# Altium footprint library QFN_Sq_50P_Side_N.PcbLib: 116 footprints (part 5 of 8)
Each footprint in its own frame and in the unit in brackets; x right, y up, seen from the top. Pads: shape width x height; smd on the part's side, far side on the other; paste and mask are expansions set on the pad; w line width, h text height; cw(c..) or ccw(c..) is an arc to the next point about the centre after c.
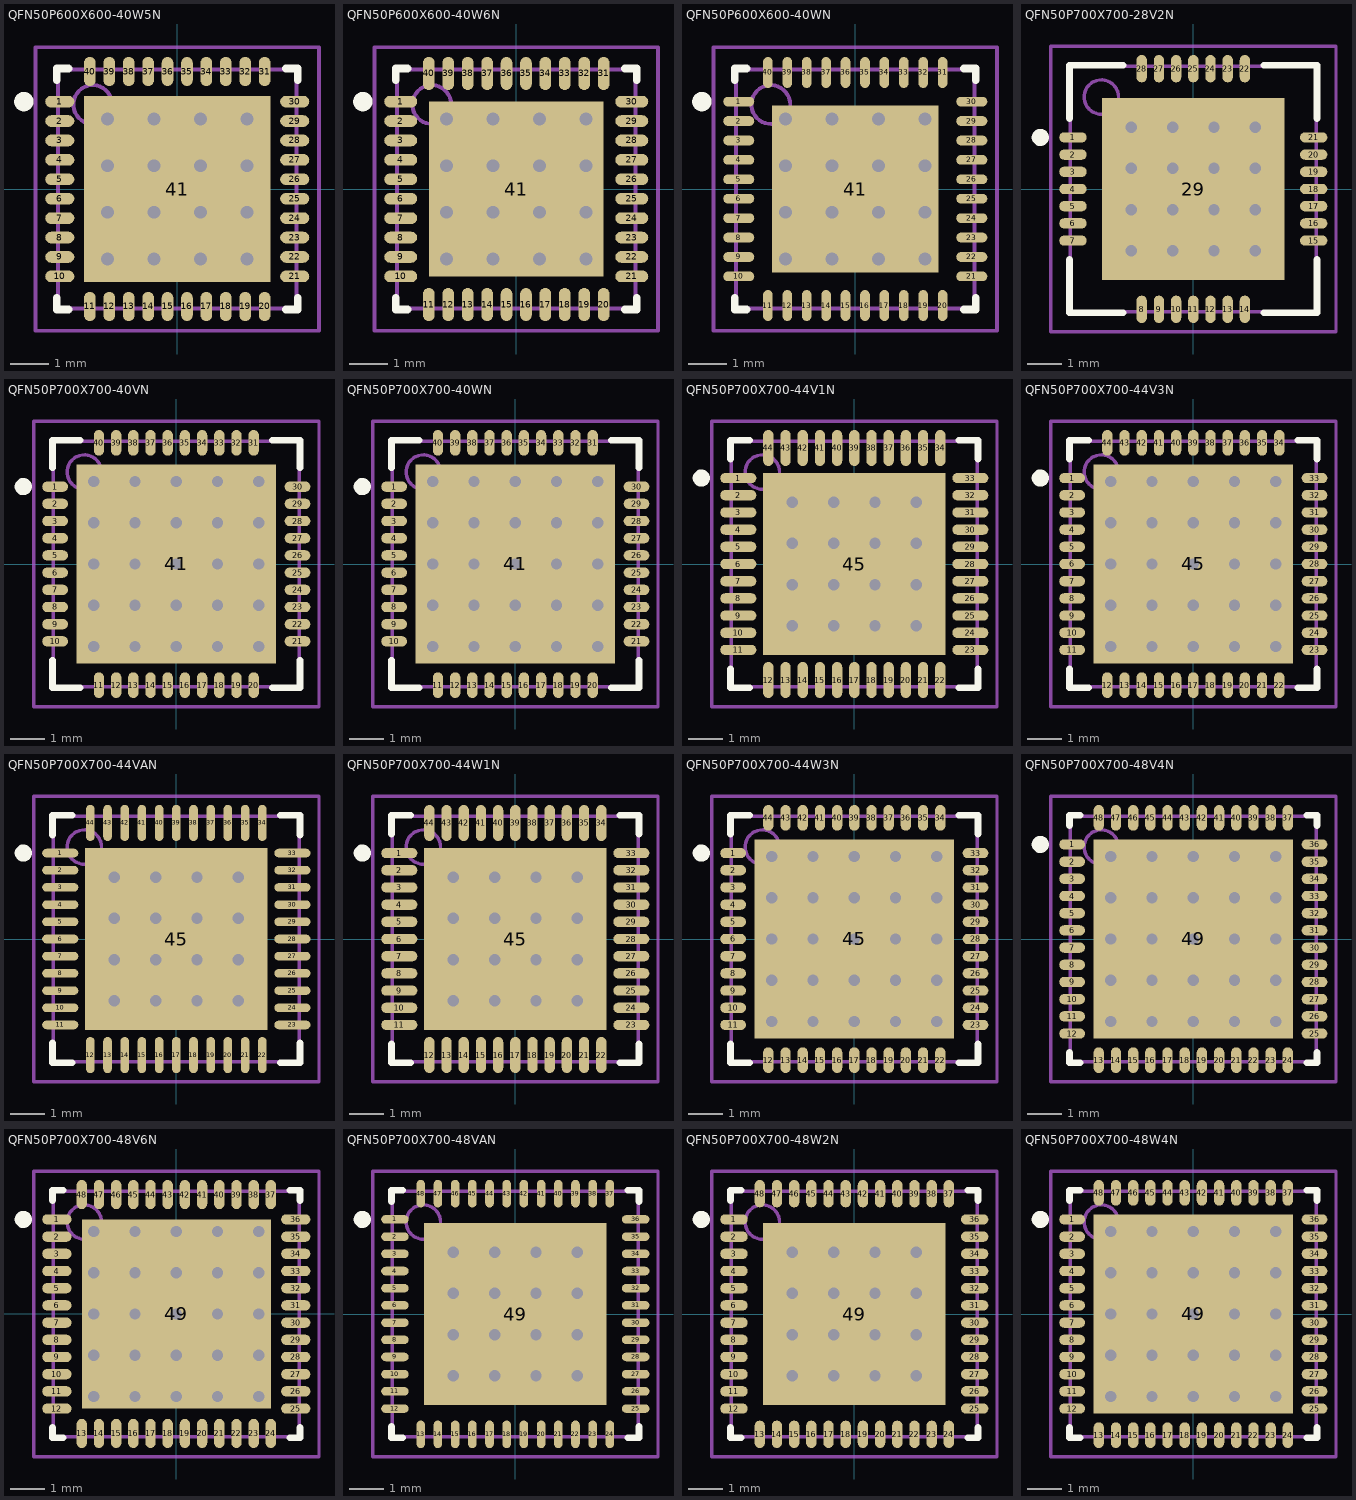
[diagram p4: the footprints below, top view; thin cyan lines are the x and y axes]

## QFN50P600X600-40W5N [mm] "QFN, 40-Leads, Body 6x6mm, Pitch 0.5mm, IPC Medium Density"
height 0.8
pads (41):
  oval 0.75x0.3 smd: 1(-3.025,2.25) 2(-3.025,1.75) 3(-3.025,1.25) 4(-3.025,0.75) 5(-3.025,0.25) 6(-3.025,-0.25) 7(-3.025,-0.75) 8(-3.025,-1.25) 9(-3.025,-1.75) 10(-3.025,-2.25) 21(3.025,-2.25) 22(3.025,-1.75) 23(3.025,-1.25) 24(3.025,-0.75) 25(3.025,-0.25) 26(3.025,0.25) 27(3.025,0.75) 28(3.025,1.25) 29(3.025,1.75) 30(3.025,2.25)
  oval 0.3x0.75 smd: 11(-2.25,-3.025) 12(-1.75,-3.025) 13(-1.25,-3.025) 14(-0.75,-3.025) 15(-0.25,-3.025) 16(0.25,-3.025) 17(0.75,-3.025) 18(1.25,-3.025) 19(1.75,-3.025) 20(2.25,-3.025) 31(2.25,3.025) 32(1.75,3.025) 33(1.25,3.025) 34(0.75,3.025) 35(0.25,3.025) 36(-0.25,3.025) 37(-0.75,3.025) 38(-1.25,3.025) 39(-1.75,3.025) 40(-2.25,3.025)
  rect 4.8x4.8 smd: 41(0,0)
via -1.8,1.8 diameter 0.66 hole 0.33
via -0.6,1.8 diameter 0.66 hole 0.33
via 0.6,1.8 diameter 0.66 hole 0.33
via 1.8,1.8 diameter 0.66 hole 0.33
via -1.8,0.6 diameter 0.66 hole 0.33
via -0.6,0.6 diameter 0.66 hole 0.33
via 0.6,0.6 diameter 0.66 hole 0.33
via 1.8,0.6 diameter 0.66 hole 0.33
via -1.8,-0.6 diameter 0.66 hole 0.33
via -0.6,-0.6 diameter 0.66 hole 0.33
via 0.6,-0.6 diameter 0.66 hole 0.33
via 1.8,-0.6 diameter 0.66 hole 0.33
via -1.8,-1.8 diameter 0.66 hole 0.33
via -0.6,-1.8 diameter 0.66 hole 0.33
via 0.6,-1.8 diameter 0.66 hole 0.33
via 1.8,-1.8 diameter 0.66 hole 0.33
Top Overlay:
  circle w0.25: c-3.95,2.25 r0.125
  lines w0.2: -3.1,-2.8 -3.1,-3.1 -2.8,-3.1 ; -3.1,2.8 -3.1,3.1 -2.8,3.1 ; 2.8,-3.1 3.1,-3.1 3.1,-2.8 ; 2.8,3.1 3.1,3.1 3.1,2.8
Mechanical 13:
  circle w0.1: c-2.175,2.175 r0.5
  lines w0.1: -3.075,-3.075 -3.075,3.075 3.075,3.075 3.075,-3.075 -3.075,-3.075
Mechanical 15:
  lines w0.1: -0.5,0 0.5,0 ; 0,-0.5 0,0.5 ; -3.65,-3.65 -3.65,3.65 3.65,3.65 3.65,-3.65 -3.65,-3.65
3D body: height 0.8, standoff 0, extent -3.075,-3.075 3.075,3.075

## QFN50P600X600-40W6N [mm] "QFN, 40-Leads, Body 6x6mm, Pitch 0.5mm, IPC Medium Density"
height 0.8
pads (41):
  oval 0.85x0.3 smd: 1(-2.975,2.25) 2(-2.975,1.75) 3(-2.975,1.25) 4(-2.975,0.75) 5(-2.975,0.25) 6(-2.975,-0.25) 7(-2.975,-0.75) 8(-2.975,-1.25) 9(-2.975,-1.75) 10(-2.975,-2.25) 21(2.975,-2.25) 22(2.975,-1.75) 23(2.975,-1.25) 24(2.975,-0.75) 25(2.975,-0.25) 26(2.975,0.25) 27(2.975,0.75) 28(2.975,1.25) 29(2.975,1.75) 30(2.975,2.25)
  oval 0.3x0.85 smd: 11(-2.25,-2.975) 12(-1.75,-2.975) 13(-1.25,-2.975) 14(-0.75,-2.975) 15(-0.25,-2.975) 16(0.25,-2.975) 17(0.75,-2.975) 18(1.25,-2.975) 19(1.75,-2.975) 20(2.25,-2.975) 31(2.25,2.975) 32(1.75,2.975) 33(1.25,2.975) 34(0.75,2.975) 35(0.25,2.975) 36(-0.25,2.975) 37(-0.75,2.975) 38(-1.25,2.975) 39(-1.75,2.975) 40(-2.25,2.975)
  rect 4.5x4.5 smd: 41(0,0)
via -1.8,1.8 diameter 0.66 hole 0.33
via -0.6,1.8 diameter 0.66 hole 0.33
via 0.6,1.8 diameter 0.66 hole 0.33
via 1.8,1.8 diameter 0.66 hole 0.33
via -1.8,0.6 diameter 0.66 hole 0.33
via -0.6,0.6 diameter 0.66 hole 0.33
via 0.6,0.6 diameter 0.66 hole 0.33
via 1.8,0.6 diameter 0.66 hole 0.33
via -1.8,-0.6 diameter 0.66 hole 0.33
via -0.6,-0.6 diameter 0.66 hole 0.33
via 0.6,-0.6 diameter 0.66 hole 0.33
via 1.8,-0.6 diameter 0.66 hole 0.33
via -1.8,-1.8 diameter 0.66 hole 0.33
via -0.6,-1.8 diameter 0.66 hole 0.33
via 0.6,-1.8 diameter 0.66 hole 0.33
via 1.8,-1.8 diameter 0.66 hole 0.33
Top Overlay:
  circle w0.25: c-3.95,2.25 r0.125
  lines w0.2: -3.1,-2.8 -3.1,-3.1 -2.8,-3.1 ; -3.1,2.8 -3.1,3.1 -2.8,3.1 ; 2.8,-3.1 3.1,-3.1 3.1,-2.8 ; 2.8,3.1 3.1,3.1 3.1,2.8
Mechanical 13:
  circle w0.1: c-2.175,2.175 r0.5
  lines w0.1: -3.075,-3.075 -3.075,3.075 3.075,3.075 3.075,-3.075 -3.075,-3.075
Mechanical 15:
  lines w0.1: -0.5,0 0.5,0 ; 0,-0.5 0,0.5 ; -3.65,-3.65 -3.65,3.65 3.65,3.65 3.65,-3.65 -3.65,-3.65
3D body: height 0.8, standoff 0, extent -3.075,-3.075 3.075,3.075

## QFN50P600X600-40WN [mm] "QFN, 40-Leads, Body 6x6mm, Pitch 0.5mm, IPC Medium Density"
height 0.8
pads (41):
  oval 0.8x0.25 smd: 1(-3,2.25) 2(-3,1.75) 3(-3,1.25) 4(-3,0.75) 5(-3,0.25) 6(-3,-0.25) 7(-3,-0.75) 8(-3,-1.25) 9(-3,-1.75) 10(-3,-2.25) 21(3,-2.25) 22(3,-1.75) 23(3,-1.25) 24(3,-0.75) 25(3,-0.25) 26(3,0.25) 27(3,0.75) 28(3,1.25) 29(3,1.75) 30(3,2.25)
  oval 0.25x0.8 smd: 11(-2.25,-3) 12(-1.75,-3) 13(-1.25,-3) 14(-0.75,-3) 15(-0.25,-3) 16(0.25,-3) 17(0.75,-3) 18(1.25,-3) 19(1.75,-3) 20(2.25,-3) 31(2.25,3) 32(1.75,3) 33(1.25,3) 34(0.75,3) 35(0.25,3) 36(-0.25,3) 37(-0.75,3) 38(-1.25,3) 39(-1.75,3) 40(-2.25,3)
  rect 4.3x4.3 smd: 41(0,0)
via 1.8,-1.8 diameter 0.66 hole 0.33
via 0.6,-1.8 diameter 0.66 hole 0.33
via -0.6,-1.8 diameter 0.66 hole 0.33
via -1.8,-1.8 diameter 0.66 hole 0.33
via 1.8,-0.6 diameter 0.66 hole 0.33
via 0.6,-0.6 diameter 0.66 hole 0.33
via -0.6,-0.6 diameter 0.66 hole 0.33
via -1.8,-0.6 diameter 0.66 hole 0.33
via 1.8,0.6 diameter 0.66 hole 0.33
via 0.6,0.6 diameter 0.66 hole 0.33
via -0.6,0.6 diameter 0.66 hole 0.33
via -1.8,0.6 diameter 0.66 hole 0.33
via 1.8,1.8 diameter 0.66 hole 0.33
via 0.6,1.8 diameter 0.66 hole 0.33
via -0.6,1.8 diameter 0.66 hole 0.33
via -1.8,1.8 diameter 0.66 hole 0.33
Top Overlay:
  circle w0.25: c-3.95,2.25 r0.125
  lines w0.2: -3.1,-2.8 -3.1,-3.1 -2.8,-3.1 ; -3.1,2.8 -3.1,3.1 -2.8,3.1 ; 2.8,-3.1 3.1,-3.1 3.1,-2.8 ; 2.8,3.1 3.1,3.1 3.1,2.8
Mechanical 13:
  circle w0.1: c-2.175,2.175 r0.5
  lines w0.1: -3.075,-3.075 3.075,-3.075 3.075,3.075 -3.075,3.075 -3.075,-3.075
Mechanical 15:
  lines w0.1: -0.5,0 0.5,0 ; 0,-0.5 0,0.5 ; -3.65,-3.65 3.65,-3.65 3.65,3.65 -3.65,3.65 -3.65,-3.65
3D body: height 0.8, standoff 0, extent -3.075,-3.075 3.075,3.075

## QFN50P700X700-28V2N [mm] "QFN, 28-Leads, Body 7x7mm, Pitch 0.5mm, IPC Medium Density"
height 1
pads (29):
  oval 0.8x0.3 smd: 1(-3.5,1.5) 2(-3.5,1) 3(-3.5,0.5) 4(-3.5,0) 5(-3.5,-0.5) 6(-3.5,-1) 7(-3.5,-1.5) 15(3.5,-1.5) 16(3.5,-1) 17(3.5,-0.5) 18(3.5,0) 19(3.5,0.5) 20(3.5,1) 21(3.5,1.5)
  oval 0.3x0.8 smd: 8(-1.5,-3.5) 9(-1,-3.5) 10(-0.5,-3.5) 11(0,-3.5) 12(0.5,-3.5) 13(1,-3.5) 14(1.5,-3.5) 22(1.5,3.5) 23(1,3.5) 24(0.5,3.5) 25(0,3.5) 26(-0.5,3.5) 27(-1,3.5) 28(-1.5,3.5)
  rect 5.3x5.3 smd: 29(0,0)
via -1.8,1.8 diameter 0.66 hole 0.33
via -0.6,1.8 diameter 0.66 hole 0.33
via 0.6,1.8 diameter 0.66 hole 0.33
via 1.8,1.8 diameter 0.66 hole 0.33
via -1.8,0.6 diameter 0.66 hole 0.33
via -0.6,0.6 diameter 0.66 hole 0.33
via 0.6,0.6 diameter 0.66 hole 0.33
via 1.8,0.6 diameter 0.66 hole 0.33
via -1.8,-0.6 diameter 0.66 hole 0.33
via -0.6,-0.6 diameter 0.66 hole 0.33
via 0.6,-0.6 diameter 0.66 hole 0.33
via 1.8,-0.6 diameter 0.66 hole 0.33
via -1.8,-1.8 diameter 0.66 hole 0.33
via -0.6,-1.8 diameter 0.66 hole 0.33
via 0.6,-1.8 diameter 0.66 hole 0.33
via 1.8,-1.8 diameter 0.66 hole 0.33
Top Overlay:
  circle w0.25: c-4.45,1.5 r0.125
  lines w0.2: -3.6,-2.05 -3.6,-3.6 -2.05,-3.6 ; -3.6,2.05 -3.6,3.6 -2.05,3.6 ; 2.05,-3.6 3.6,-3.6 3.6,-2.05 ; 2.05,3.6 3.6,3.6 3.6,2.05
Mechanical 13:
  circle w0.1: c-2.675,2.675 r0.5
  lines w0.1: -3.575,-3.575 -3.575,3.575 3.575,3.575 3.575,-3.575 -3.575,-3.575
Mechanical 15:
  lines w0.1: -0.5,0 0.5,0 ; 0,-0.5 0,0.5 ; -4.15,-4.15 -4.15,4.15 4.15,4.15 4.15,-4.15 -4.15,-4.15
3D body: height 1, standoff 0, extent -3.575,-3.575 3.575,3.575

## QFN50P700X700-40VN [mm] "QFN, 40-Leads, Body 7x7mm, Pitch 0.5mm, IPC Medium Density"
height 1
pads (41):
  oval 0.75x0.3 smd: 1(-3.525,2.25) 2(-3.525,1.75) 3(-3.525,1.25) 4(-3.525,0.75) 5(-3.525,0.25) 6(-3.525,-0.25) 7(-3.525,-0.75) 8(-3.525,-1.25) 9(-3.525,-1.75) 10(-3.525,-2.25) 21(3.525,-2.25) 22(3.525,-1.75) 23(3.525,-1.25) 24(3.525,-0.75) 25(3.525,-0.25) 26(3.525,0.25) 27(3.525,0.75) 28(3.525,1.25) 29(3.525,1.75) 30(3.525,2.25)
  oval 0.3x0.75 smd: 11(-2.25,-3.525) 12(-1.75,-3.525) 13(-1.25,-3.525) 14(-0.75,-3.525) 15(-0.25,-3.525) 16(0.25,-3.525) 17(0.75,-3.525) 18(1.25,-3.525) 19(1.75,-3.525) 20(2.25,-3.525) 31(2.25,3.525) 32(1.75,3.525) 33(1.25,3.525) 34(0.75,3.525) 35(0.25,3.525) 36(-0.25,3.525) 37(-0.75,3.525) 38(-1.25,3.525) 39(-1.75,3.525) 40(-2.25,3.525)
  rect 5.8x5.8 smd: 41(0,0)
via -2.4,2.4 diameter 0.66 hole 0.33
via -1.2,2.4 diameter 0.66 hole 0.33
via 0,2.4 diameter 0.66 hole 0.33
via 1.2,2.4 diameter 0.66 hole 0.33
via 2.4,2.4 diameter 0.66 hole 0.33
via -2.4,1.2 diameter 0.66 hole 0.33
via -1.2,1.2 diameter 0.66 hole 0.33
via 0,1.2 diameter 0.66 hole 0.33
via 1.2,1.2 diameter 0.66 hole 0.33
via 2.4,1.2 diameter 0.66 hole 0.33
via -2.4,0 diameter 0.66 hole 0.33
via -1.2,0 diameter 0.66 hole 0.33
via 0,0 diameter 0.66 hole 0.33
via 1.2,0 diameter 0.66 hole 0.33
via 2.4,0 diameter 0.66 hole 0.33
via -2.4,-1.2 diameter 0.66 hole 0.33
via -1.2,-1.2 diameter 0.66 hole 0.33
via 0,-1.2 diameter 0.66 hole 0.33
via 1.2,-1.2 diameter 0.66 hole 0.33
via 2.4,-1.2 diameter 0.66 hole 0.33
via -2.4,-2.4 diameter 0.66 hole 0.33
via -1.2,-2.4 diameter 0.66 hole 0.33
via 0,-2.4 diameter 0.66 hole 0.33
via 1.2,-2.4 diameter 0.66 hole 0.33
via 2.4,-2.4 diameter 0.66 hole 0.33
Top Overlay:
  circle w0.25: c-4.45,2.25 r0.125
  lines w0.2: -3.6,-2.8 -3.6,-3.6 -2.8,-3.6 ; -3.6,2.8 -3.6,3.6 -2.8,3.6 ; 2.8,-3.6 3.6,-3.6 3.6,-2.8 ; 2.8,3.6 3.6,3.6 3.6,2.8
Mechanical 13:
  circle w0.1: c-2.675,2.675 r0.5
  lines w0.1: -3.575,-3.575 -3.575,3.575 3.575,3.575 3.575,-3.575 -3.575,-3.575
Mechanical 15:
  lines w0.1: -0.5,0 0.5,0 ; 0,-0.5 0,0.5 ; -4.15,-4.15 -4.15,4.15 4.15,4.15 4.15,-4.15 -4.15,-4.15
3D body: height 1, standoff 0, extent -3.575,-3.575 3.575,3.575

## QFN50P700X700-40WN [mm] "QFN, 40-Leads, Body 7x7mm, Pitch 0.5mm, IPC Medium Density"
height 0.8
pads (41):
  oval 0.75x0.3 smd: 1(-3.525,2.25) 2(-3.525,1.75) 3(-3.525,1.25) 4(-3.525,0.75) 5(-3.525,0.25) 6(-3.525,-0.25) 7(-3.525,-0.75) 8(-3.525,-1.25) 9(-3.525,-1.75) 10(-3.525,-2.25) 21(3.525,-2.25) 22(3.525,-1.75) 23(3.525,-1.25) 24(3.525,-0.75) 25(3.525,-0.25) 26(3.525,0.25) 27(3.525,0.75) 28(3.525,1.25) 29(3.525,1.75) 30(3.525,2.25)
  oval 0.3x0.75 smd: 11(-2.25,-3.525) 12(-1.75,-3.525) 13(-1.25,-3.525) 14(-0.75,-3.525) 15(-0.25,-3.525) 16(0.25,-3.525) 17(0.75,-3.525) 18(1.25,-3.525) 19(1.75,-3.525) 20(2.25,-3.525) 31(2.25,3.525) 32(1.75,3.525) 33(1.25,3.525) 34(0.75,3.525) 35(0.25,3.525) 36(-0.25,3.525) 37(-0.75,3.525) 38(-1.25,3.525) 39(-1.75,3.525) 40(-2.25,3.525)
  rect 5.8x5.8 smd: 41(0,0)
via 2.4,-2.4 diameter 0.66 hole 0.33
via 1.2,-2.4 diameter 0.66 hole 0.33
via 0,-2.4 diameter 0.66 hole 0.33
via -1.2,-2.4 diameter 0.66 hole 0.33
via -2.4,-2.4 diameter 0.66 hole 0.33
via 2.4,-1.2 diameter 0.66 hole 0.33
via 1.2,-1.2 diameter 0.66 hole 0.33
via 0,-1.2 diameter 0.66 hole 0.33
via -1.2,-1.2 diameter 0.66 hole 0.33
via -2.4,-1.2 diameter 0.66 hole 0.33
via 2.4,0 diameter 0.66 hole 0.33
via 1.2,0 diameter 0.66 hole 0.33
via 0,0 diameter 0.66 hole 0.33
via -1.2,0 diameter 0.66 hole 0.33
via -2.4,0 diameter 0.66 hole 0.33
via 2.4,1.2 diameter 0.66 hole 0.33
via 1.2,1.2 diameter 0.66 hole 0.33
via 0,1.2 diameter 0.66 hole 0.33
via -1.2,1.2 diameter 0.66 hole 0.33
via -2.4,1.2 diameter 0.66 hole 0.33
via 2.4,2.4 diameter 0.66 hole 0.33
via 1.2,2.4 diameter 0.66 hole 0.33
via 0,2.4 diameter 0.66 hole 0.33
via -1.2,2.4 diameter 0.66 hole 0.33
via -2.4,2.4 diameter 0.66 hole 0.33
Top Overlay:
  circle w0.25: c-4.45,2.25 r0.125
  lines w0.2: -3.6,-2.8 -3.6,-3.6 -2.8,-3.6 ; -3.6,2.8 -3.6,3.6 -2.8,3.6 ; 2.8,-3.6 3.6,-3.6 3.6,-2.8 ; 2.8,3.6 3.6,3.6 3.6,2.8
Mechanical 13:
  circle w0.1: c-2.675,2.675 r0.5
  lines w0.1: -3.575,-3.575 3.575,-3.575 3.575,3.575 -3.575,3.575 -3.575,-3.575
Mechanical 15:
  lines w0.1: -0.5,0 0.5,0 ; 0,-0.5 0,0.5 ; -4.15,-4.15 4.15,-4.15 4.15,4.15 -4.15,4.15 -4.15,-4.15
3D body: height 0.8, standoff 0, extent -3.575,-3.575 3.575,3.575

## QFN50P700X700-44V1N [mm] "QFN, 44-Leads, Body 7x7mm, Pitch 0.5mm, IPC Medium Density"
height 1
pads (45):
  oval 1.05x0.3 smd: 1(-3.375,2.5) 2(-3.375,2) 3(-3.375,1.5) 4(-3.375,1) 5(-3.375,0.5) 6(-3.375,0) 7(-3.375,-0.5) 8(-3.375,-1) 9(-3.375,-1.5) 10(-3.375,-2) 11(-3.375,-2.5) 23(3.375,-2.5) 24(3.375,-2) 25(3.375,-1.5) 26(3.375,-1) 27(3.375,-0.5) 28(3.375,0) 29(3.375,0.5) 30(3.375,1) 31(3.375,1.5) 32(3.375,2) 33(3.375,2.5)
  oval 0.3x1.05 smd: 12(-2.5,-3.375) 13(-2,-3.375) 14(-1.5,-3.375) 15(-1,-3.375) 16(-0.5,-3.375) 17(0,-3.375) 18(0.5,-3.375) 19(1,-3.375) 20(1.5,-3.375) 21(2,-3.375) 22(2.5,-3.375) 34(2.5,3.375) 35(2,3.375) 36(1.5,3.375) 37(1,3.375) 38(0.5,3.375) 39(0,3.375) 40(-0.5,3.375) 41(-1,3.375) 42(-1.5,3.375) 43(-2,3.375) 44(-2.5,3.375)
  rect 5.3x5.3 smd: 45(0,0)
via -1.8,1.8 diameter 0.66 hole 0.33
via -0.6,1.8 diameter 0.66 hole 0.33
via 0.6,1.8 diameter 0.66 hole 0.33
via 1.8,1.8 diameter 0.66 hole 0.33
via -1.8,0.6 diameter 0.66 hole 0.33
via -0.6,0.6 diameter 0.66 hole 0.33
via 0.6,0.6 diameter 0.66 hole 0.33
via 1.8,0.6 diameter 0.66 hole 0.33
via -1.8,-0.6 diameter 0.66 hole 0.33
via -0.6,-0.6 diameter 0.66 hole 0.33
via 0.6,-0.6 diameter 0.66 hole 0.33
via 1.8,-0.6 diameter 0.66 hole 0.33
via -1.8,-1.8 diameter 0.66 hole 0.33
via -0.6,-1.8 diameter 0.66 hole 0.33
via 0.6,-1.8 diameter 0.66 hole 0.33
via 1.8,-1.8 diameter 0.66 hole 0.33
Top Overlay:
  circle w0.25: c-4.45,2.5 r0.125
  lines w0.2: -3.6,-3.05 -3.6,-3.6 -3.05,-3.6 ; -3.6,3.05 -3.6,3.6 -3.05,3.6 ; 3.05,-3.6 3.6,-3.6 3.6,-3.05 ; 3.05,3.6 3.6,3.6 3.6,3.05
Mechanical 13:
  circle w0.1: c-2.675,2.675 r0.5
  lines w0.1: -3.575,-3.575 -3.575,3.575 3.575,3.575 3.575,-3.575 -3.575,-3.575
Mechanical 15:
  lines w0.1: -0.5,0 0.5,0 ; 0,-0.5 0,0.5 ; -4.15,-4.15 -4.15,4.15 4.15,4.15 4.15,-4.15 -4.15,-4.15
3D body: height 1, standoff 0, extent -3.575,-3.575 3.575,3.575

## QFN50P700X700-44V3N [mm] "QFN, 44-Leads, Body 7x7mm, Pitch 0.5mm, IPC Medium Density"
height 1
pads (45):
  oval 0.75x0.3 smd: 1(-3.525,2.5) 2(-3.525,2) 3(-3.525,1.5) 4(-3.525,1) 5(-3.525,0.5) 6(-3.525,0) 7(-3.525,-0.5) 8(-3.525,-1) 9(-3.525,-1.5) 10(-3.525,-2) 11(-3.525,-2.5) 23(3.525,-2.5) 24(3.525,-2) 25(3.525,-1.5) 26(3.525,-1) 27(3.525,-0.5) 28(3.525,0) 29(3.525,0.5) 30(3.525,1) 31(3.525,1.5) 32(3.525,2) 33(3.525,2.5)
  oval 0.3x0.75 smd: 12(-2.5,-3.525) 13(-2,-3.525) 14(-1.5,-3.525) 15(-1,-3.525) 16(-0.5,-3.525) 17(0,-3.525) 18(0.5,-3.525) 19(1,-3.525) 20(1.5,-3.525) 21(2,-3.525) 22(2.5,-3.525) 34(2.5,3.525) 35(2,3.525) 36(1.5,3.525) 37(1,3.525) 38(0.5,3.525) 39(0,3.525) 40(-0.5,3.525) 41(-1,3.525) 42(-1.5,3.525) 43(-2,3.525) 44(-2.5,3.525)
  rect 5.8x5.8 smd: 45(0,0)
via 2.4,-2.4 diameter 0.66 hole 0.33
via 1.2,-2.4 diameter 0.66 hole 0.33
via 0,-2.4 diameter 0.66 hole 0.33
via -1.2,-2.4 diameter 0.66 hole 0.33
via -2.4,-2.4 diameter 0.66 hole 0.33
via 2.4,-1.2 diameter 0.66 hole 0.33
via 1.2,-1.2 diameter 0.66 hole 0.33
via 0,-1.2 diameter 0.66 hole 0.33
via -1.2,-1.2 diameter 0.66 hole 0.33
via -2.4,-1.2 diameter 0.66 hole 0.33
via 2.4,0 diameter 0.66 hole 0.33
via 1.2,0 diameter 0.66 hole 0.33
via 0,0 diameter 0.66 hole 0.33
via -1.2,0 diameter 0.66 hole 0.33
via -2.4,0 diameter 0.66 hole 0.33
via 2.4,1.2 diameter 0.66 hole 0.33
via 1.2,1.2 diameter 0.66 hole 0.33
via 0,1.2 diameter 0.66 hole 0.33
via -1.2,1.2 diameter 0.66 hole 0.33
via -2.4,1.2 diameter 0.66 hole 0.33
via 2.4,2.4 diameter 0.66 hole 0.33
via 1.2,2.4 diameter 0.66 hole 0.33
via 0,2.4 diameter 0.66 hole 0.33
via -1.2,2.4 diameter 0.66 hole 0.33
via -2.4,2.4 diameter 0.66 hole 0.33
Top Overlay:
  circle w0.25: c-4.45,2.5 r0.125
  lines w0.2: -3.6,-3.05 -3.6,-3.6 -3.05,-3.6 ; -3.6,3.05 -3.6,3.6 -3.05,3.6 ; 3.05,-3.6 3.6,-3.6 3.6,-3.05 ; 3.05,3.6 3.6,3.6 3.6,3.05
Mechanical 13:
  circle w0.1: c-2.675,2.675 r0.5
  lines w0.1: -3.575,-3.575 3.575,-3.575 3.575,3.575 -3.575,3.575 -3.575,-3.575
Mechanical 15:
  lines w0.1: -0.5,0 0.5,0 ; 0,-0.5 0,0.5 ; -4.15,-4.15 4.15,-4.15 4.15,4.15 -4.15,4.15 -4.15,-4.15
3D body: height 1, standoff 0, extent -3.575,-3.575 3.575,3.575

## QFN50P700X700-44VAN [mm] "QFN, 44-Leads, Body 7x7mm, Pitch 0.5mm, IPC Medium Density"
height 1
pads (45):
  oval 1.05x0.25 smd: 1(-3.375,2.5) 2(-3.375,2) 3(-3.375,1.5) 4(-3.375,1) 5(-3.375,0.5) 6(-3.375,0) 7(-3.375,-0.5) 8(-3.375,-1) 9(-3.375,-1.5) 10(-3.375,-2) 11(-3.375,-2.5) 23(3.375,-2.5) 24(3.375,-2) 25(3.375,-1.5) 26(3.375,-1) 27(3.375,-0.5) 28(3.375,0) 29(3.375,0.5) 30(3.375,1) 31(3.375,1.5) 32(3.375,2) 33(3.375,2.5)
  oval 0.25x1.05 smd: 12(-2.5,-3.375) 13(-2,-3.375) 14(-1.5,-3.375) 15(-1,-3.375) 16(-0.5,-3.375) 17(0,-3.375) 18(0.5,-3.375) 19(1,-3.375) 20(1.5,-3.375) 21(2,-3.375) 22(2.5,-3.375) 34(2.5,3.375) 35(2,3.375) 36(1.5,3.375) 37(1,3.375) 38(0.5,3.375) 39(0,3.375) 40(-0.5,3.375) 41(-1,3.375) 42(-1.5,3.375) 43(-2,3.375) 44(-2.5,3.375)
  rect 5.3x5.3 smd: 45(0,0)
via -1.8,1.8 diameter 0.66 hole 0.33
via -0.6,1.8 diameter 0.66 hole 0.33
via 0.6,1.8 diameter 0.66 hole 0.33
via 1.8,1.8 diameter 0.66 hole 0.33
via -1.8,0.6 diameter 0.66 hole 0.33
via -0.6,0.6 diameter 0.66 hole 0.33
via 0.6,0.6 diameter 0.66 hole 0.33
via 1.8,0.6 diameter 0.66 hole 0.33
via -1.8,-0.6 diameter 0.66 hole 0.33
via -0.6,-0.6 diameter 0.66 hole 0.33
via 0.6,-0.6 diameter 0.66 hole 0.33
via 1.8,-0.6 diameter 0.66 hole 0.33
via -1.8,-1.8 diameter 0.66 hole 0.33
via -0.6,-1.8 diameter 0.66 hole 0.33
via 0.6,-1.8 diameter 0.66 hole 0.33
via 1.8,-1.8 diameter 0.66 hole 0.33
Top Overlay:
  circle w0.25: c-4.45,2.5 r0.125
  lines w0.2: -3.6,-3.025 -3.6,-3.6 -3.025,-3.6 ; -3.6,3.025 -3.6,3.6 -3.025,3.6 ; 3.025,-3.6 3.6,-3.6 3.6,-3.025 ; 3.025,3.6 3.6,3.6 3.6,3.025
Mechanical 13:
  circle w0.1: c-2.675,2.675 r0.5
  lines w0.1: -3.575,-3.575 -3.575,3.575 3.575,3.575 3.575,-3.575 -3.575,-3.575
Mechanical 15:
  lines w0.1: -0.5,0 0.5,0 ; 0,-0.5 0,0.5 ; -4.15,-4.15 -4.15,4.15 4.15,4.15 4.15,-4.15 -4.15,-4.15
3D body: height 1, standoff 0, extent -3.575,-3.575 3.575,3.575

## QFN50P700X700-44W1N [mm] "QFN, 44-Leads, Body 7x7mm, Pitch 0.5mm, IPC Medium Density"
height 0.8
pads (45):
  oval 1.05x0.3 smd: 1(-3.375,2.5) 2(-3.375,2) 3(-3.375,1.5) 4(-3.375,1) 5(-3.375,0.5) 6(-3.375,0) 7(-3.375,-0.5) 8(-3.375,-1) 9(-3.375,-1.5) 10(-3.375,-2) 11(-3.375,-2.5) 23(3.375,-2.5) 24(3.375,-2) 25(3.375,-1.5) 26(3.375,-1) 27(3.375,-0.5) 28(3.375,0) 29(3.375,0.5) 30(3.375,1) 31(3.375,1.5) 32(3.375,2) 33(3.375,2.5)
  oval 0.3x1.05 smd: 12(-2.5,-3.375) 13(-2,-3.375) 14(-1.5,-3.375) 15(-1,-3.375) 16(-0.5,-3.375) 17(0,-3.375) 18(0.5,-3.375) 19(1,-3.375) 20(1.5,-3.375) 21(2,-3.375) 22(2.5,-3.375) 34(2.5,3.375) 35(2,3.375) 36(1.5,3.375) 37(1,3.375) 38(0.5,3.375) 39(0,3.375) 40(-0.5,3.375) 41(-1,3.375) 42(-1.5,3.375) 43(-2,3.375) 44(-2.5,3.375)
  rect 5.3x5.3 smd: 45(0,0)
via -1.8,1.8 diameter 0.66 hole 0.33
via -0.6,1.8 diameter 0.66 hole 0.33
via 0.6,1.8 diameter 0.66 hole 0.33
via 1.8,1.8 diameter 0.66 hole 0.33
via -1.8,0.6 diameter 0.66 hole 0.33
via -0.6,0.6 diameter 0.66 hole 0.33
via 0.6,0.6 diameter 0.66 hole 0.33
via 1.8,0.6 diameter 0.66 hole 0.33
via -1.8,-0.6 diameter 0.66 hole 0.33
via -0.6,-0.6 diameter 0.66 hole 0.33
via 0.6,-0.6 diameter 0.66 hole 0.33
via 1.8,-0.6 diameter 0.66 hole 0.33
via -1.8,-1.8 diameter 0.66 hole 0.33
via -0.6,-1.8 diameter 0.66 hole 0.33
via 0.6,-1.8 diameter 0.66 hole 0.33
via 1.8,-1.8 diameter 0.66 hole 0.33
Top Overlay:
  circle w0.25: c-4.45,2.5 r0.125
  lines w0.2: -3.6,-3.05 -3.6,-3.6 -3.05,-3.6 ; -3.6,3.05 -3.6,3.6 -3.05,3.6 ; 3.05,-3.6 3.6,-3.6 3.6,-3.05 ; 3.05,3.6 3.6,3.6 3.6,3.05
Mechanical 13:
  circle w0.1: c-2.675,2.675 r0.5
  lines w0.1: -3.575,-3.575 -3.575,3.575 3.575,3.575 3.575,-3.575 -3.575,-3.575
Mechanical 15:
  lines w0.1: -0.5,0 0.5,0 ; 0,-0.5 0,0.5 ; -4.15,-4.15 -4.15,4.15 4.15,4.15 4.15,-4.15 -4.15,-4.15
3D body: height 0.8, standoff 0, extent -3.575,-3.575 3.575,3.575

## QFN50P700X700-44W3N [mm] "QFN, 44-Leads, Body 7x7mm, Pitch 0.5mm, IPC Medium Density"
height 0.8
pads (45):
  oval 0.75x0.3 smd: 1(-3.525,2.5) 2(-3.525,2) 3(-3.525,1.5) 4(-3.525,1) 5(-3.525,0.5) 6(-3.525,0) 7(-3.525,-0.5) 8(-3.525,-1) 9(-3.525,-1.5) 10(-3.525,-2) 11(-3.525,-2.5) 23(3.525,-2.5) 24(3.525,-2) 25(3.525,-1.5) 26(3.525,-1) 27(3.525,-0.5) 28(3.525,0) 29(3.525,0.5) 30(3.525,1) 31(3.525,1.5) 32(3.525,2) 33(3.525,2.5)
  oval 0.3x0.75 smd: 12(-2.5,-3.525) 13(-2,-3.525) 14(-1.5,-3.525) 15(-1,-3.525) 16(-0.5,-3.525) 17(0,-3.525) 18(0.5,-3.525) 19(1,-3.525) 20(1.5,-3.525) 21(2,-3.525) 22(2.5,-3.525) 34(2.5,3.525) 35(2,3.525) 36(1.5,3.525) 37(1,3.525) 38(0.5,3.525) 39(0,3.525) 40(-0.5,3.525) 41(-1,3.525) 42(-1.5,3.525) 43(-2,3.525) 44(-2.5,3.525)
  rect 5.8x5.8 smd: 45(0,0)
via -2.4,2.4 diameter 0.66 hole 0.33
via -1.2,2.4 diameter 0.66 hole 0.33
via 0,2.4 diameter 0.66 hole 0.33
via 1.2,2.4 diameter 0.66 hole 0.33
via 2.4,2.4 diameter 0.66 hole 0.33
via -2.4,1.2 diameter 0.66 hole 0.33
via -1.2,1.2 diameter 0.66 hole 0.33
via 0,1.2 diameter 0.66 hole 0.33
via 1.2,1.2 diameter 0.66 hole 0.33
via 2.4,1.2 diameter 0.66 hole 0.33
via -2.4,0 diameter 0.66 hole 0.33
via -1.2,0 diameter 0.66 hole 0.33
via 0,0 diameter 0.66 hole 0.33
via 1.2,0 diameter 0.66 hole 0.33
via 2.4,0 diameter 0.66 hole 0.33
via -2.4,-1.2 diameter 0.66 hole 0.33
via -1.2,-1.2 diameter 0.66 hole 0.33
via 0,-1.2 diameter 0.66 hole 0.33
via 1.2,-1.2 diameter 0.66 hole 0.33
via 2.4,-1.2 diameter 0.66 hole 0.33
via -2.4,-2.4 diameter 0.66 hole 0.33
via -1.2,-2.4 diameter 0.66 hole 0.33
via 0,-2.4 diameter 0.66 hole 0.33
via 1.2,-2.4 diameter 0.66 hole 0.33
via 2.4,-2.4 diameter 0.66 hole 0.33
Top Overlay:
  circle w0.25: c-4.45,2.5 r0.125
  lines w0.2: -3.6,-3.05 -3.6,-3.6 -3.05,-3.6 ; -3.6,3.05 -3.6,3.6 -3.05,3.6 ; 3.05,-3.6 3.6,-3.6 3.6,-3.05 ; 3.05,3.6 3.6,3.6 3.6,3.05
Mechanical 13:
  circle w0.1: c-2.675,2.675 r0.5
  lines w0.1: -3.575,-3.575 -3.575,3.575 3.575,3.575 3.575,-3.575 -3.575,-3.575
Mechanical 15:
  lines w0.1: -0.5,0 0.5,0 ; 0,-0.5 0,0.5 ; -4.15,-4.15 -4.15,4.15 4.15,4.15 4.15,-4.15 -4.15,-4.15
3D body: height 0.8, standoff 0, extent -3.575,-3.575 3.575,3.575

## QFN50P700X700-48V4N [mm] "QFN, 48-Leads, Body 7x7mm, Pitch 0.5mm, IPC Medium Density"
height 1
pads (49):
  oval 0.75x0.3 smd: 1(-3.525,2.75) 2(-3.525,2.25) 3(-3.525,1.75) 4(-3.525,1.25) 5(-3.525,0.75) 6(-3.525,0.25) 7(-3.525,-0.25) 8(-3.525,-0.75) 9(-3.525,-1.25) 10(-3.525,-1.75) 11(-3.525,-2.25) 12(-3.525,-2.75) 25(3.525,-2.75) 26(3.525,-2.25) 27(3.525,-1.75) 28(3.525,-1.25) 29(3.525,-0.75) 30(3.525,-0.25) 31(3.525,0.25) 32(3.525,0.75) 33(3.525,1.25) 34(3.525,1.75) 35(3.525,2.25) 36(3.525,2.75)
  oval 0.3x0.75 smd: 13(-2.75,-3.525) 14(-2.25,-3.525) 15(-1.75,-3.525) 16(-1.25,-3.525) 17(-0.75,-3.525) 18(-0.25,-3.525) 19(0.25,-3.525) 20(0.75,-3.525) 21(1.25,-3.525) 22(1.75,-3.525) 23(2.25,-3.525) 24(2.75,-3.525) 37(2.75,3.525) 38(2.25,3.525) 39(1.75,3.525) 40(1.25,3.525) 41(0.75,3.525) 42(0.25,3.525) 43(-0.25,3.525) 44(-0.75,3.525) 45(-1.25,3.525) 46(-1.75,3.525) 47(-2.25,3.525) 48(-2.75,3.525)
  rect 5.8x5.8 smd: 49(0,0)
via -2.4,2.4 diameter 0.66 hole 0.33
via -1.2,2.4 diameter 0.66 hole 0.33
via 0,2.4 diameter 0.66 hole 0.33
via 1.2,2.4 diameter 0.66 hole 0.33
via 2.4,2.4 diameter 0.66 hole 0.33
via -2.4,1.2 diameter 0.66 hole 0.33
via -1.2,1.2 diameter 0.66 hole 0.33
via 0,1.2 diameter 0.66 hole 0.33
via 1.2,1.2 diameter 0.66 hole 0.33
via 2.4,1.2 diameter 0.66 hole 0.33
via -2.4,0 diameter 0.66 hole 0.33
via -1.2,0 diameter 0.66 hole 0.33
via 0,0 diameter 0.66 hole 0.33
via 1.2,0 diameter 0.66 hole 0.33
via 2.4,0 diameter 0.66 hole 0.33
via -2.4,-1.2 diameter 0.66 hole 0.33
via -1.2,-1.2 diameter 0.66 hole 0.33
via 0,-1.2 diameter 0.66 hole 0.33
via 1.2,-1.2 diameter 0.66 hole 0.33
via 2.4,-1.2 diameter 0.66 hole 0.33
via -2.4,-2.4 diameter 0.66 hole 0.33
via -1.2,-2.4 diameter 0.66 hole 0.33
via 0,-2.4 diameter 0.66 hole 0.33
via 1.2,-2.4 diameter 0.66 hole 0.33
via 2.4,-2.4 diameter 0.66 hole 0.33
Top Overlay:
  circle w0.25: c-4.45,2.75 r0.125
  lines w0.2: -3.6,-3.3 -3.6,-3.6 -3.3,-3.6 ; -3.6,3.3 -3.6,3.6 -3.3,3.6 ; 3.3,-3.6 3.6,-3.6 3.6,-3.3 ; 3.3,3.6 3.6,3.6 3.6,3.3
Mechanical 13:
  circle w0.1: c-2.675,2.675 r0.5
  lines w0.1: -3.575,-3.575 -3.575,3.575 3.575,3.575 3.575,-3.575 -3.575,-3.575
Mechanical 15:
  lines w0.1: -0.5,0 0.5,0 ; 0,-0.5 0,0.5 ; -4.15,-4.15 -4.15,4.15 4.15,4.15 4.15,-4.15 -4.15,-4.15
3D body: height 1, standoff 0, extent -3.575,-3.575 3.575,3.575

## QFN50P700X700-48V6N [mm] "QFN, 48-Leads, Body 7x7mm, Pitch 0.5mm, IPC Medium Density"
height 1
pads (49):
  oval 0.85x0.3 smd: 1(-3.475,2.75) 2(-3.475,2.25) 3(-3.475,1.75) 4(-3.475,1.25) 5(-3.475,0.75) 6(-3.475,0.25) 7(-3.475,-0.25) 8(-3.475,-0.75) 9(-3.475,-1.25) 10(-3.475,-1.75) 11(-3.475,-2.25) 12(-3.475,-2.75) 25(3.475,-2.75) 26(3.475,-2.25) 27(3.475,-1.75) 28(3.475,-1.25) 29(3.475,-0.75) 30(3.475,-0.25) 31(3.475,0.25) 32(3.475,0.75) 33(3.475,1.25) 34(3.475,1.75) 35(3.475,2.25) 36(3.475,2.75)
  oval 0.3x0.85 smd: 13(-2.75,-3.475) 14(-2.25,-3.475) 15(-1.75,-3.475) 16(-1.25,-3.475) 17(-0.75,-3.475) 18(-0.25,-3.475) 19(0.25,-3.475) 20(0.75,-3.475) 21(1.25,-3.475) 22(1.75,-3.475) 23(2.25,-3.475) 24(2.75,-3.475) 37(2.75,3.475) 38(2.25,3.475) 39(1.75,3.475) 40(1.25,3.475) 41(0.75,3.475) 42(0.25,3.475) 43(-0.25,3.475) 44(-0.75,3.475) 45(-1.25,3.475) 46(-1.75,3.475) 47(-2.25,3.475) 48(-2.75,3.475)
  rect 5.5x5.5 smd: 49(0,0)
via -2.4,2.4 diameter 0.66 hole 0.33
via -1.2,2.4 diameter 0.66 hole 0.33
via 0,2.4 diameter 0.66 hole 0.33
via 1.2,2.4 diameter 0.66 hole 0.33
via 2.4,2.4 diameter 0.66 hole 0.33
via -2.4,1.2 diameter 0.66 hole 0.33
via -1.2,1.2 diameter 0.66 hole 0.33
via 0,1.2 diameter 0.66 hole 0.33
via 1.2,1.2 diameter 0.66 hole 0.33
via 2.4,1.2 diameter 0.66 hole 0.33
via -2.4,0 diameter 0.66 hole 0.33
via -1.2,0 diameter 0.66 hole 0.33
via 0,0 diameter 0.66 hole 0.33
via 1.2,0 diameter 0.66 hole 0.33
via 2.4,0 diameter 0.66 hole 0.33
via -2.4,-1.2 diameter 0.66 hole 0.33
via -1.2,-1.2 diameter 0.66 hole 0.33
via 0,-1.2 diameter 0.66 hole 0.33
via 1.2,-1.2 diameter 0.66 hole 0.33
via 2.4,-1.2 diameter 0.66 hole 0.33
via -2.4,-2.4 diameter 0.66 hole 0.33
via -1.2,-2.4 diameter 0.66 hole 0.33
via 0,-2.4 diameter 0.66 hole 0.33
via 1.2,-2.4 diameter 0.66 hole 0.33
via 2.4,-2.4 diameter 0.66 hole 0.33
Top Overlay:
  circle w0.25: c-4.45,2.75 r0.125
  lines w0.2: -3.6,-3.3 -3.6,-3.6 -3.3,-3.6 ; -3.6,3.3 -3.6,3.6 -3.3,3.6 ; 3.3,-3.6 3.6,-3.6 3.6,-3.3 ; 3.3,3.6 3.6,3.6 3.6,3.3
Mechanical 13:
  circle w0.1: c-2.675,2.675 r0.5
  lines w0.1: -3.575,-3.575 -3.575,3.575 3.575,3.575 3.575,-3.575 -3.575,-3.575
Mechanical 15:
  lines w0.1: -0.5,0 0.5,0 ; 0,-0.5 0,0.5 ; -4.15,-4.15 -4.15,4.15 4.15,4.15 4.15,-4.15 -4.15,-4.15
3D body: height 1, standoff 0, extent -3.575,-3.575 3.575,3.575

## QFN50P700X700-48VAN [mm] "QFN, 48-Leads, Body 7x7mm, Pitch 0.5mm, IPC Medium Density"
height 1
pads (49):
  oval 0.8x0.25 smd: 1(-3.5,2.75) 2(-3.5,2.25) 3(-3.5,1.75) 4(-3.5,1.25) 5(-3.5,0.75) 6(-3.5,0.25) 7(-3.5,-0.25) 8(-3.5,-0.75) 9(-3.5,-1.25) 10(-3.5,-1.75) 11(-3.5,-2.25) 12(-3.5,-2.75) 25(3.5,-2.75) 26(3.5,-2.25) 27(3.5,-1.75) 28(3.5,-1.25) 29(3.5,-0.75) 30(3.5,-0.25) 31(3.5,0.25) 32(3.5,0.75) 33(3.5,1.25) 34(3.5,1.75) 35(3.5,2.25) 36(3.5,2.75)
  oval 0.25x0.8 smd: 13(-2.75,-3.5) 14(-2.25,-3.5) 15(-1.75,-3.5) 16(-1.25,-3.5) 17(-0.75,-3.5) 18(-0.25,-3.5) 19(0.25,-3.5) 20(0.75,-3.5) 21(1.25,-3.5) 22(1.75,-3.5) 23(2.25,-3.5) 24(2.75,-3.5) 37(2.75,3.5) 38(2.25,3.5) 39(1.75,3.5) 40(1.25,3.5) 41(0.75,3.5) 42(0.25,3.5) 43(-0.25,3.5) 44(-0.75,3.5) 45(-1.25,3.5) 46(-1.75,3.5) 47(-2.25,3.5) 48(-2.75,3.5)
  rect 5.3x5.3 smd: 49(0,0)
via -1.8,1.8 diameter 0.66 hole 0.33
via -0.6,1.8 diameter 0.66 hole 0.33
via 0.6,1.8 diameter 0.66 hole 0.33
via 1.8,1.8 diameter 0.66 hole 0.33
via -1.8,0.6 diameter 0.66 hole 0.33
via -0.6,0.6 diameter 0.66 hole 0.33
via 0.6,0.6 diameter 0.66 hole 0.33
via 1.8,0.6 diameter 0.66 hole 0.33
via -1.8,-0.6 diameter 0.66 hole 0.33
via -0.6,-0.6 diameter 0.66 hole 0.33
via 0.6,-0.6 diameter 0.66 hole 0.33
via 1.8,-0.6 diameter 0.66 hole 0.33
via -1.8,-1.8 diameter 0.66 hole 0.33
via -0.6,-1.8 diameter 0.66 hole 0.33
via 0.6,-1.8 diameter 0.66 hole 0.33
via 1.8,-1.8 diameter 0.66 hole 0.33
Top Overlay:
  circle w0.25: c-4.45,2.75 r0.125
  lines w0.2: -3.6,-3.275 -3.6,-3.6 -3.275,-3.6 ; -3.6,3.275 -3.6,3.6 -3.275,3.6 ; 3.275,-3.6 3.6,-3.6 3.6,-3.275 ; 3.275,3.6 3.6,3.6 3.6,3.275
Mechanical 13:
  circle w0.1: c-2.675,2.675 r0.5
  lines w0.1: -3.575,-3.575 -3.575,3.575 3.575,3.575 3.575,-3.575 -3.575,-3.575
Mechanical 15:
  lines w0.1: -0.5,0 0.5,0 ; 0,-0.5 0,0.5 ; -4.15,-4.15 -4.15,4.15 4.15,4.15 4.15,-4.15 -4.15,-4.15
3D body: height 1, standoff 0, extent -3.575,-3.575 3.575,3.575

## QFN50P700X700-48W2N [mm] "QFN, 48-Leads, Body 7x7mm, Pitch 0.5mm, IPC Medium Density"
height 0.8
pads (49):
  oval 0.8x0.3 smd: 1(-3.5,2.75) 2(-3.5,2.25) 3(-3.5,1.75) 4(-3.5,1.25) 5(-3.5,0.75) 6(-3.5,0.25) 7(-3.5,-0.25) 8(-3.5,-0.75) 9(-3.5,-1.25) 10(-3.5,-1.75) 11(-3.5,-2.25) 12(-3.5,-2.75) 25(3.5,-2.75) 26(3.5,-2.25) 27(3.5,-1.75) 28(3.5,-1.25) 29(3.5,-0.75) 30(3.5,-0.25) 31(3.5,0.25) 32(3.5,0.75) 33(3.5,1.25) 34(3.5,1.75) 35(3.5,2.25) 36(3.5,2.75)
  oval 0.3x0.8 smd: 13(-2.75,-3.5) 14(-2.25,-3.5) 15(-1.75,-3.5) 16(-1.25,-3.5) 17(-0.75,-3.5) 18(-0.25,-3.5) 19(0.25,-3.5) 20(0.75,-3.5) 21(1.25,-3.5) 22(1.75,-3.5) 23(2.25,-3.5) 24(2.75,-3.5) 37(2.75,3.5) 38(2.25,3.5) 39(1.75,3.5) 40(1.25,3.5) 41(0.75,3.5) 42(0.25,3.5) 43(-0.25,3.5) 44(-0.75,3.5) 45(-1.25,3.5) 46(-1.75,3.5) 47(-2.25,3.5) 48(-2.75,3.5)
  rect 5.3x5.3 smd: 49(0,0)
via -1.8,1.8 diameter 0.66 hole 0.33
via -0.6,1.8 diameter 0.66 hole 0.33
via 0.6,1.8 diameter 0.66 hole 0.33
via 1.8,1.8 diameter 0.66 hole 0.33
via -1.8,0.6 diameter 0.66 hole 0.33
via -0.6,0.6 diameter 0.66 hole 0.33
via 0.6,0.6 diameter 0.66 hole 0.33
via 1.8,0.6 diameter 0.66 hole 0.33
via -1.8,-0.6 diameter 0.66 hole 0.33
via -0.6,-0.6 diameter 0.66 hole 0.33
via 0.6,-0.6 diameter 0.66 hole 0.33
via 1.8,-0.6 diameter 0.66 hole 0.33
via -1.8,-1.8 diameter 0.66 hole 0.33
via -0.6,-1.8 diameter 0.66 hole 0.33
via 0.6,-1.8 diameter 0.66 hole 0.33
via 1.8,-1.8 diameter 0.66 hole 0.33
Top Overlay:
  circle w0.25: c-4.45,2.75 r0.125
  lines w0.2: -3.6,-3.3 -3.6,-3.6 -3.3,-3.6 ; -3.6,3.3 -3.6,3.6 -3.3,3.6 ; 3.3,-3.6 3.6,-3.6 3.6,-3.3 ; 3.3,3.6 3.6,3.6 3.6,3.3
Mechanical 13:
  circle w0.1: c-2.675,2.675 r0.5
  lines w0.1: -3.575,-3.575 -3.575,3.575 3.575,3.575 3.575,-3.575 -3.575,-3.575
Mechanical 15:
  lines w0.1: -0.5,0 0.5,0 ; 0,-0.5 0,0.5 ; -4.15,-4.15 -4.15,4.15 4.15,4.15 4.15,-4.15 -4.15,-4.15
3D body: height 0.8, standoff 0, extent -3.575,-3.575 3.575,3.575

## QFN50P700X700-48W4N [mm] "QFN, 48-Leads, Body 7x7mm, Pitch 0.5mm, IPC Medium Density"
height 0.8
pads (49):
  oval 0.75x0.3 smd: 1(-3.525,2.75) 2(-3.525,2.25) 3(-3.525,1.75) 4(-3.525,1.25) 5(-3.525,0.75) 6(-3.525,0.25) 7(-3.525,-0.25) 8(-3.525,-0.75) 9(-3.525,-1.25) 10(-3.525,-1.75) 11(-3.525,-2.25) 12(-3.525,-2.75) 25(3.525,-2.75) 26(3.525,-2.25) 27(3.525,-1.75) 28(3.525,-1.25) 29(3.525,-0.75) 30(3.525,-0.25) 31(3.525,0.25) 32(3.525,0.75) 33(3.525,1.25) 34(3.525,1.75) 35(3.525,2.25) 36(3.525,2.75)
  oval 0.3x0.75 smd: 13(-2.75,-3.525) 14(-2.25,-3.525) 15(-1.75,-3.525) 16(-1.25,-3.525) 17(-0.75,-3.525) 18(-0.25,-3.525) 19(0.25,-3.525) 20(0.75,-3.525) 21(1.25,-3.525) 22(1.75,-3.525) 23(2.25,-3.525) 24(2.75,-3.525) 37(2.75,3.525) 38(2.25,3.525) 39(1.75,3.525) 40(1.25,3.525) 41(0.75,3.525) 42(0.25,3.525) 43(-0.25,3.525) 44(-0.75,3.525) 45(-1.25,3.525) 46(-1.75,3.525) 47(-2.25,3.525) 48(-2.75,3.525)
  rect 5.8x5.8 smd: 49(0,0)
via 2.4,-2.4 diameter 0.66 hole 0.33
via 1.2,-2.4 diameter 0.66 hole 0.33
via 0,-2.4 diameter 0.66 hole 0.33
via -1.2,-2.4 diameter 0.66 hole 0.33
via -2.4,-2.4 diameter 0.66 hole 0.33
via 2.4,-1.2 diameter 0.66 hole 0.33
via 1.2,-1.2 diameter 0.66 hole 0.33
via 0,-1.2 diameter 0.66 hole 0.33
via -1.2,-1.2 diameter 0.66 hole 0.33
via -2.4,-1.2 diameter 0.66 hole 0.33
via 2.4,0 diameter 0.66 hole 0.33
via 1.2,0 diameter 0.66 hole 0.33
via 0,0 diameter 0.66 hole 0.33
via -1.2,0 diameter 0.66 hole 0.33
via -2.4,0 diameter 0.66 hole 0.33
via 2.4,1.2 diameter 0.66 hole 0.33
via 1.2,1.2 diameter 0.66 hole 0.33
via 0,1.2 diameter 0.66 hole 0.33
via -1.2,1.2 diameter 0.66 hole 0.33
via -2.4,1.2 diameter 0.66 hole 0.33
via 2.4,2.4 diameter 0.66 hole 0.33
via 1.2,2.4 diameter 0.66 hole 0.33
via 0,2.4 diameter 0.66 hole 0.33
via -1.2,2.4 diameter 0.66 hole 0.33
via -2.4,2.4 diameter 0.66 hole 0.33
Top Overlay:
  circle w0.25: c-4.45,2.75 r0.125
  lines w0.2: -3.6,-3.3 -3.6,-3.6 -3.3,-3.6 ; -3.6,3.3 -3.6,3.6 -3.3,3.6 ; 3.3,-3.6 3.6,-3.6 3.6,-3.3 ; 3.3,3.6 3.6,3.6 3.6,3.3
Mechanical 13:
  circle w0.1: c-2.675,2.675 r0.5
  lines w0.1: -3.575,-3.575 3.575,-3.575 3.575,3.575 -3.575,3.575 -3.575,-3.575
Mechanical 15:
  lines w0.1: -0.5,0 0.5,0 ; 0,-0.5 0,0.5 ; -4.15,-4.15 4.15,-4.15 4.15,4.15 -4.15,4.15 -4.15,-4.15
3D body: height 0.8, standoff 0, extent -3.575,-3.575 3.575,3.575